# EAGLE library part RFM73P (library AS-2-Extras)
DA RADIO
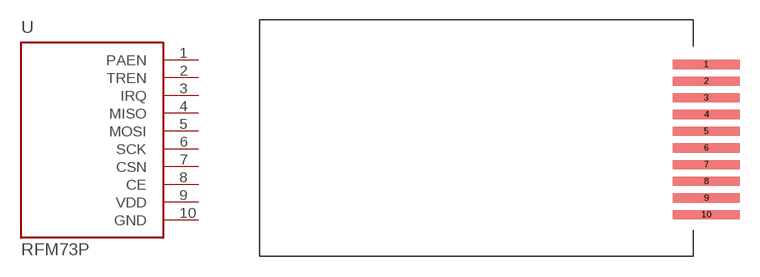
[diagram p9: symbol with the pads of RFM73P; footprint RFM73P]

Designator prefix -

## RFM73P  [RFM73P]
1  PAEN
2  TREN
3  IRQ
4  MISO
5  MOSI
6  SCK
7  CSN
8  CE
9  VDD  pwr
10  GND  pwr

## Footprint RFM73P (pad centres in mm)
smd 5.08 x 0.7: 1 18,5.6; 2 18,4.33; 3 18,3.06; 4 18,1.79; 5 18,0.52; 6 18,-0.75; 7 18,-2.02; 8 18,-3.29; 9 18,-4.56; 10 18,-5.83